# EAGLE library part COMPORT-6PIN-NEW (library pinconn)
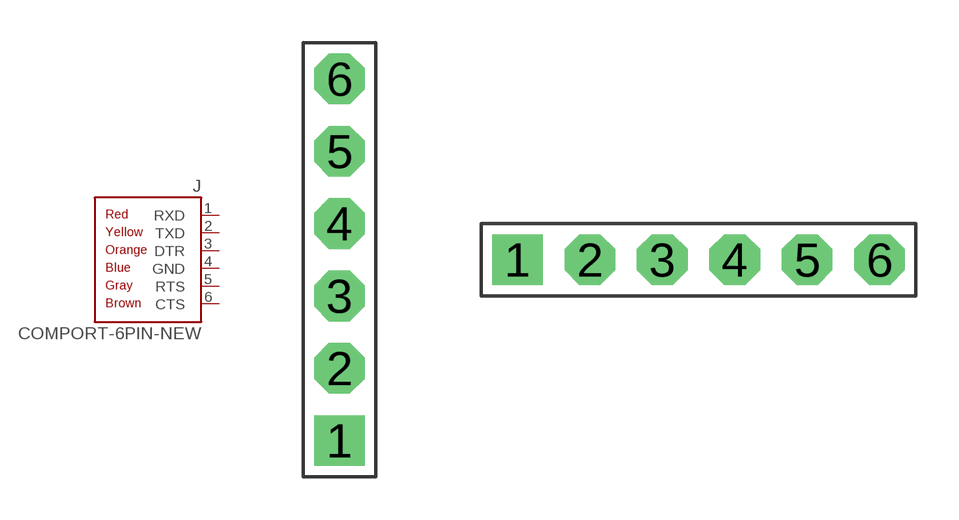
[diagram p2: symbol with the pads of RS232-6PIN-NEW; footprints RS232-6PIN-NEW, CONN-6P]

Designator prefix J

## COMPORT-6PIN-NEW  [RS232-6PIN-NEW]
1  RXD  pas
2  TXD  pas
3  DTR  pas
4  GND  pas
5  RTS  pas
6  CTS  pas

## COMPORT-6PIN-NEW-6P  [CONN-6P]
Pads as for RS232-6PIN-NEW

## COMPORT-6PIN-NEW-L  [RS232-6PIN-NEW-L]
Pads as for RS232-6PIN-NEW

## COMPORT-6PIN-NEW-6P-NEW-90  [RS232-6PIN-NEW-90]
CTS  CTS  pas
DTR  DTR  pas
GND  GND  pas
RTS  RTS  pas
RXD  RXD  pas
TXD  TXD  pas

## COMPORT-6PIN-NEW-6P-NEW-90-L  [RS232-6PIN-NEW-90-L]
Pads as for RS232-6PIN-NEW-90

## COMPORT-6PIN-NEW-6P-FEM  [CONN-6P-FEM]
Pads as for RS232-6PIN-NEW

## COMPORT-6PIN-NEW-6P-FEM-90  [CONN-6P-FEM-90]
Pads as for RS232-6PIN-NEW

## Footprint RS232-6PIN-NEW (pad centres in mm)
drill 0.9 pad 1.778 square: 1 0,-6.35
drill 0.9 pad 1.778 octagon: 2 0,-3.81; 3 0,-1.27; 4 0,1.27; 5 0,3.81; 6 0,6.35

## Footprint CONN-6P (pad centres in mm)
drill 0.9 pad 1.778 square: 1 -6.35,0
drill 0.9 pad 1.778 octagon: 2 -3.81,0; 3 -1.27,0; 4 1.27,0; 5 3.81,0; 6 6.35,0

## Footprint RS232-6PIN-NEW-L (pad centres in mm)
drill 0.9 pad 1.778 square: 1 0,6.35
drill 0.9 pad 1.778 octagon: 2 0,3.81; 3 0,1.27; 4 0,-1.27; 5 0,-3.81; 6 0,-6.35

## Footprint RS232-6PIN-NEW-90 (pad centres in mm)
drill 0.9 pad 1.778 octagon: CTS 0,6.35; DTR 0,-1.27; GND 0,1.27; RTS 0,3.81; TXD 0,-3.81
drill 0.9 pad 1.778 square: RXD 0,-6.35

## Footprint RS232-6PIN-NEW-90-L (pad centres in mm)
drill 0.9 pad 1.778 octagon: CTS 0,-6.35; DTR 0,1.27; GND 0,-1.27; RTS 0,-3.81; TXD 0,3.81
drill 0.9 pad 1.778 square: RXD 0,6.35

## Footprint CONN-6P-FEM (pad centres in mm)
drill 0.813 long: 1 -6.35,0; 2 -3.81,0; 3 -1.27,0; 4 1.27,0; 5 3.81,0; 6 6.35,0

## Footprint CONN-6P-FEM-90 (pad centres in mm)
drill 0.9 pad 1.778 square: 1 -6.35,0
drill 0.9 pad 1.778 octagon: 2 -3.81,0; 3 -1.27,0; 4 1.27,0; 5 3.81,0; 6 6.35,0